# Altium footprint library 483910003.PcbLib: 1 footprints
Each footprint in its own frame and in the unit in brackets; x right, y up, seen from the top. Pads: shape width x height; smd on the part's side, far side on the other; paste and mask are expansions set on the pad; w line width, h text height; cw(c..) or ccw(c..) is an arc to the next point about the centre after c.
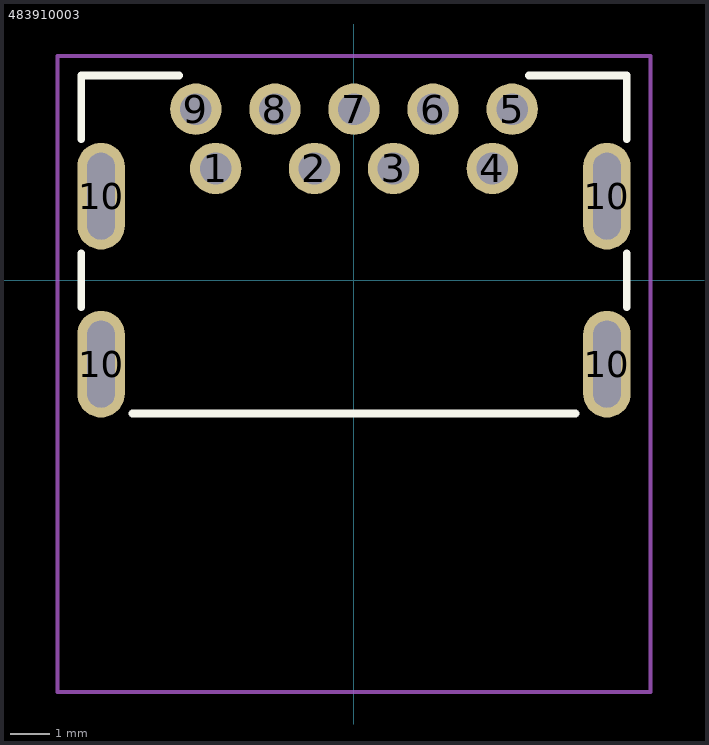
[diagram p0: the footprint, top view; thin cyan lines are the x and y axes]

## 483910003 [mm]
pads (13):
  round 1.3 hole 0.8: 1(-3.5,2.825) 2(-1,2.825) 3(1,2.825) 4(3.5,2.825) 5(4,4.325) 6(2,4.325) 7(0,4.325) 8(-2,4.325) 9(-4,4.325)
  oval 1.2x2.7 hole 2.2 slot 0.7 at 0 deg: 10(-6.4,-2.125) 10(-6.4,2.125) 10(6.4,2.125) 10(6.4,-2.125)
Top Overlay:
  lines w0.2: -6.9,-0.675 -6.9,0.675 ; -6.9,3.575 -6.9,5.175 -4.425,5.175 ; -5.6,-3.375 5.6,-3.375 ; 4.425,5.175 6.9,5.175 6.9,3.575 ; 6.9,-0.675 6.9,0.675
Top Courtyard:
  lines w0.1: -7.5,2.15 -7.5,5.675 ; 6.9,5.675 7.5,5.675 ; 7.5,2.2 7.5,5.675 ; -7.5,5.675 -7.5,-10.425 7.5,-10.425 7.5,5.675 ; -7.5,5.675 7.5,5.675
3D body "483910003.stp": height 9.05, standoff -1.48, extent -6.9,-9.925 6.9,5.175